# Altium footprint library Head_20_sop.PcbLib: 1 footprints
Each footprint in its own frame and in the unit in brackets; x right, y up, seen from the top. Pads: shape width x height; smd on the part's side, far side on the other; paste and mask are expansions set on the pad; w line width, h text height; cw(c..) or ccw(c..) is an arc to the next point about the centre after c.
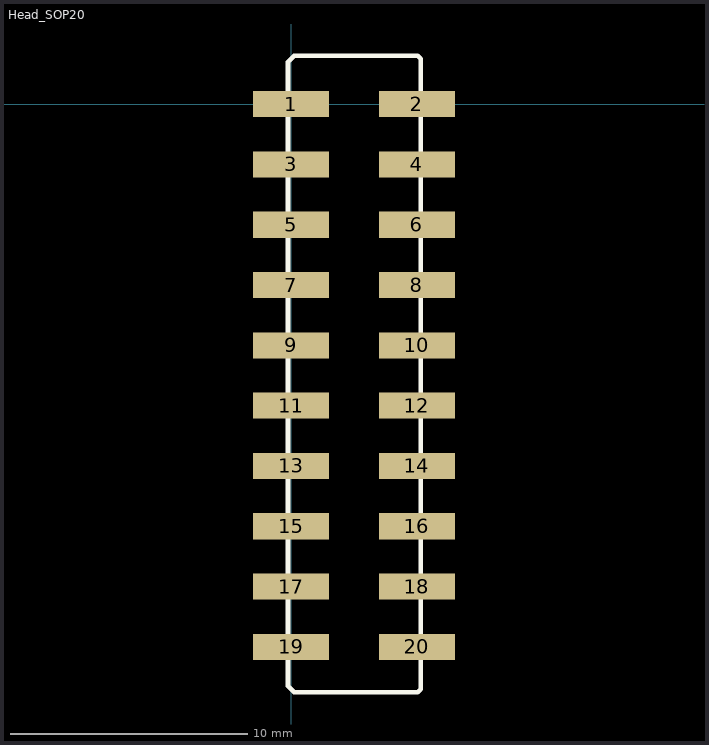
[diagram p0: the footprint, top view; thin cyan lines are the x and y axes]

## Head_SOP20 [mm]
pads (20):
  rect 3.2x1.1 smd: 1(0,0) 2(5.3,0) 3(0,-2.54) 4(5.3,-2.54) 5(0,-5.08) 6(5.3,-5.08) 7(0,-7.62) 8(5.3,-7.62) 9(0,-10.16) 10(5.3,-10.16) 11(0,-12.7) 12(5.3,-12.7) 13(0,-15.24) 14(5.3,-15.24) 15(0,-17.78) 16(5.3,-17.78) 17(0,-20.32) 18(5.3,-20.32) 19(0,-22.86) 20(5.3,-22.86)
Top Overlay:
  lines w0.2: -0.127,-24.511 -0.127,1.778 0.127,2.032 5.334,2.032 5.461,1.905 5.461,-24.638 5.334,-24.765 0.127,-24.765 -0.127,-24.511